# Altium footprint library MBed.PcbLib: 3 footprints
Each footprint in its own frame and in the unit in brackets; x right, y up, seen from the top. Pads: shape width x height; smd on the part's side, far side on the other; paste and mask are expansions set on the pad; w line width, h text height; cw(c..) or ccw(c..) is an arc to the next point about the centre after c.
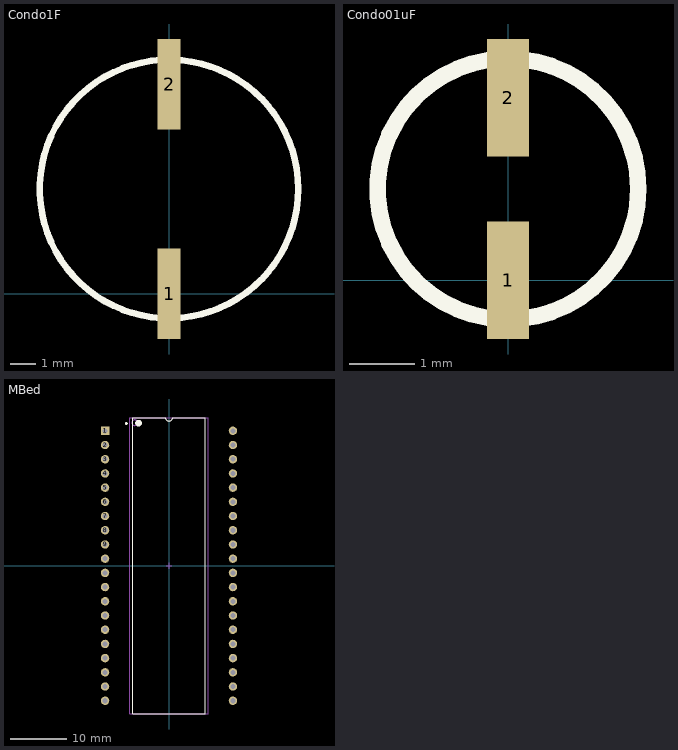
[diagram p0: the footprints below, top view; thin cyan lines are the x and y axes]

## Condo1F [mm]
pads (2):
  rect 0.9x3.5 all layers, no hole: 1(0,0) 2(0,8.1)
Top Overlay:
  circle w0.254: c0,4.05 r5

## Condo01uF [mm]
pads (2):
  rect 0.65x1.8 all layers, no hole: 1(0,0) 2(0,2.8)
Top Overlay:
  circle w0.254: c0,1.4 r2

## MBed [mm]
pads (40):
  rect 1.5x1.5 hole 0.9: 1(-11.43,24.13)
  round 1.5 hole 0.9: 2(-11.43,21.59) 3(-11.43,19.05) 4(-11.43,16.51) 5(-11.43,13.97) 6(-11.43,11.43) 7(-11.43,8.89) 8(-11.43,6.35) 9(-11.43,3.81) 10(-11.43,1.27) 11(-11.43,-1.27) 12(-11.43,-3.81) 13(-11.43,-6.35) 14(-11.43,-8.89) 15(-11.43,-11.43) 16(-11.43,-13.97) 17(-11.43,-16.51) 18(-11.43,-19.05) 19(-11.43,-21.59) 20(-11.43,-24.13) 21(11.43,-24.13) 22(11.43,-21.59) 23(11.43,-19.05) 24(11.43,-16.51) 25(11.43,-13.97) 26(11.43,-11.43) 27(11.43,-8.89) 28(11.43,-6.35) 29(11.43,-3.81) 30(11.43,-1.27) 31(11.43,1.27) 32(11.43,3.81) 33(11.43,6.35) 34(11.43,8.89) 35(11.43,11.43) 36(11.43,13.97) 37(11.43,16.51) 38(11.43,19.05) 39(11.43,21.59) 40(11.43,24.13)
Top Overlay:
  circle w0.6: c-5.45,25.5 r0.3
  circle w0.25: c-7.62,25.43 r0.125
  lines w0.2: -6.45,-26.5 6.45,-26.5 6.45,26.5 0.635,26.5 cw(c0,26.5) -0.635,26.5 -6.45,26.5 -6.45,-26.5
Mechanical 13:
  circle w0.1: c-6.15,25.575 r0.5
  lines w0.1: -7.05,-26.475 7.05,-26.475 7.05,26.475 -7.05,26.475 -7.05,-26.475
Mechanical 15:
  lines w0.1: -0.5,0 0.5,0 ; 0,-0.5 0,0.5
3D body: height 4.83, standoff 0, extent -7.05,-26.475 7.05,26.475